# Altium schematic symbol library Components - 25.02.24 - 15.21.SchLib: 1 symbol
Pins are listed as number, name and electrical type; pins without a type are passive.

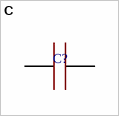
[diagram p0: symbol C]

## C
designator C?, comment 04023J0R9BBWTR  (value not drawn)
Manufacturer: AVX Interconnect / Elco; Part Number: 04023J0R9BBWTR
footprint CAP: 0402
pins: 1, 2
1 alternate drawing of the same symbol